# EAGLE library part PTN78060W (library texas)
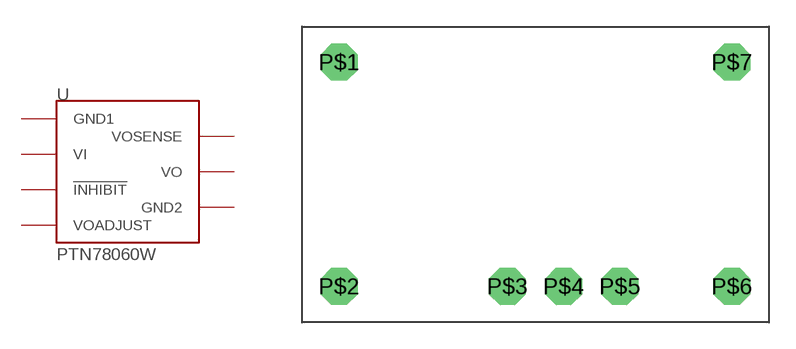
[diagram p125: symbol with the pads of PTN78060W; footprint PTN78060W]

Designator prefix -

## PTN78060W  [PTN78060W]
P$1  GND1
P$2  GND2
P$3  !INHIBIT!
P$4  VI
P$5  VO
P$6  VOADJUST
P$7  VOSENSE

## Footprint PTN78060W (pad centres in mm)
drill 1.397 octagon: P$1 -11.113,6.35; P$2 -11.113,-6.35; P$3 -1.587,-6.35; P$4 1.587,-6.35; P$5 4.763,-6.35; P$6 11.113,-6.35; P$7 11.113,6.35